# EAGLE library part 65100516121 (library WR-USB)
WR-USB Mini/Micro Connectors Characteristics Mini and Micro form factors, ideal for space-constrained designs Pin configuration: 5 pins for USB 2.0 / 10 pins for USB 3.x Designed for high cycle durability UL, TID listing for USB standards Applications Mobile and handheld devices Wearables and portable accessories Embedded systems and IoT modules Details see: www.we-online.com/en/components/products/INPUT_OUTPUT_WR_USB_STANDARD Updated by Ella 2024-05-21 2024 (C) Würth Elektronik
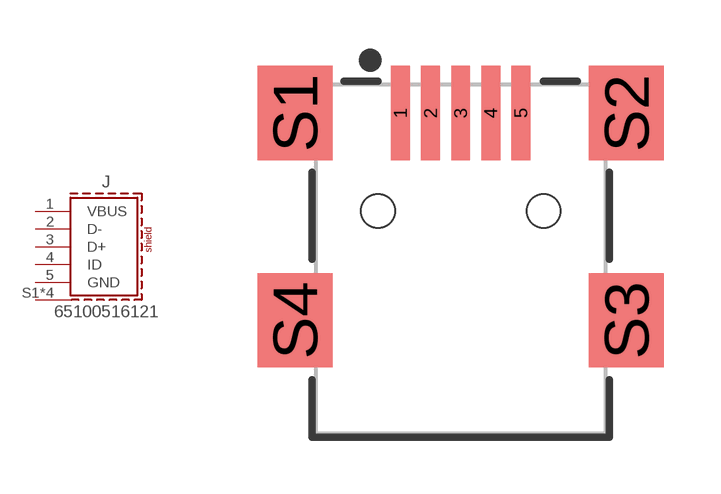
[diagram p25: symbol with the pads of 65100516121; footprint 65100516121]

Designator prefix J

## 65100516121 (APPLICATION: Mini USB 2.0; DATASHEET: https://www.we-online.com/redexpert/spec/65100516121?ae; GERDER: Receptacle; INTERFACE-TYPE: Type B; IR: 1 A; MOUNT: SMT; PACKAGING: Tape and Reel & Mylar; PART-NUMBER: 65100516121; PINS: 5pcs; TYPE: Horizontal; VALUE: 65100516121; WORKING-VOLTAGE: 30 V (AC))  [65100516121]
1  VBUS  pas
2  D-  pas
3  D+  pas
4  ID  pas
5  GND  pas
S1  SHIELD  pas
S2  SHIELD  pas
S3  SHIELD  pas
S4  SHIELD  pas

## Footprint 65100516121 (pad centres in mm)
WR-USB Mini/Micro Connectors Mini USB 2.0, Type B, Horizontal SMT, 5Pins
smd 0.5 x 2.5: 1 -1.6,3.875; 2 -0.8,3.875; 3 0,3.875; 4 0.8,3.875; 5 1.6,3.875
smd 2 x 2.5: S1 -4.4,3.875; S2 4.4,3.875; S3 4.4,-1.625; S4 -4.4,-1.625
hole 0.9 at -2.2,1.275
hole 0.9 at 2.2,1.275